# Altium footprint library LARS_409_CONNECTORS.PCBLIB: 109 footprints (part 3 of 7)
Each footprint in its own frame and in the unit in brackets; x right, y up, seen from the top. Pads: shape width x height; smd on the part's side, far side on the other; paste and mask are expansions set on the pad; w line width, h text height; cw(c..) or ccw(c..) is an arc to the next point about the centre after c.
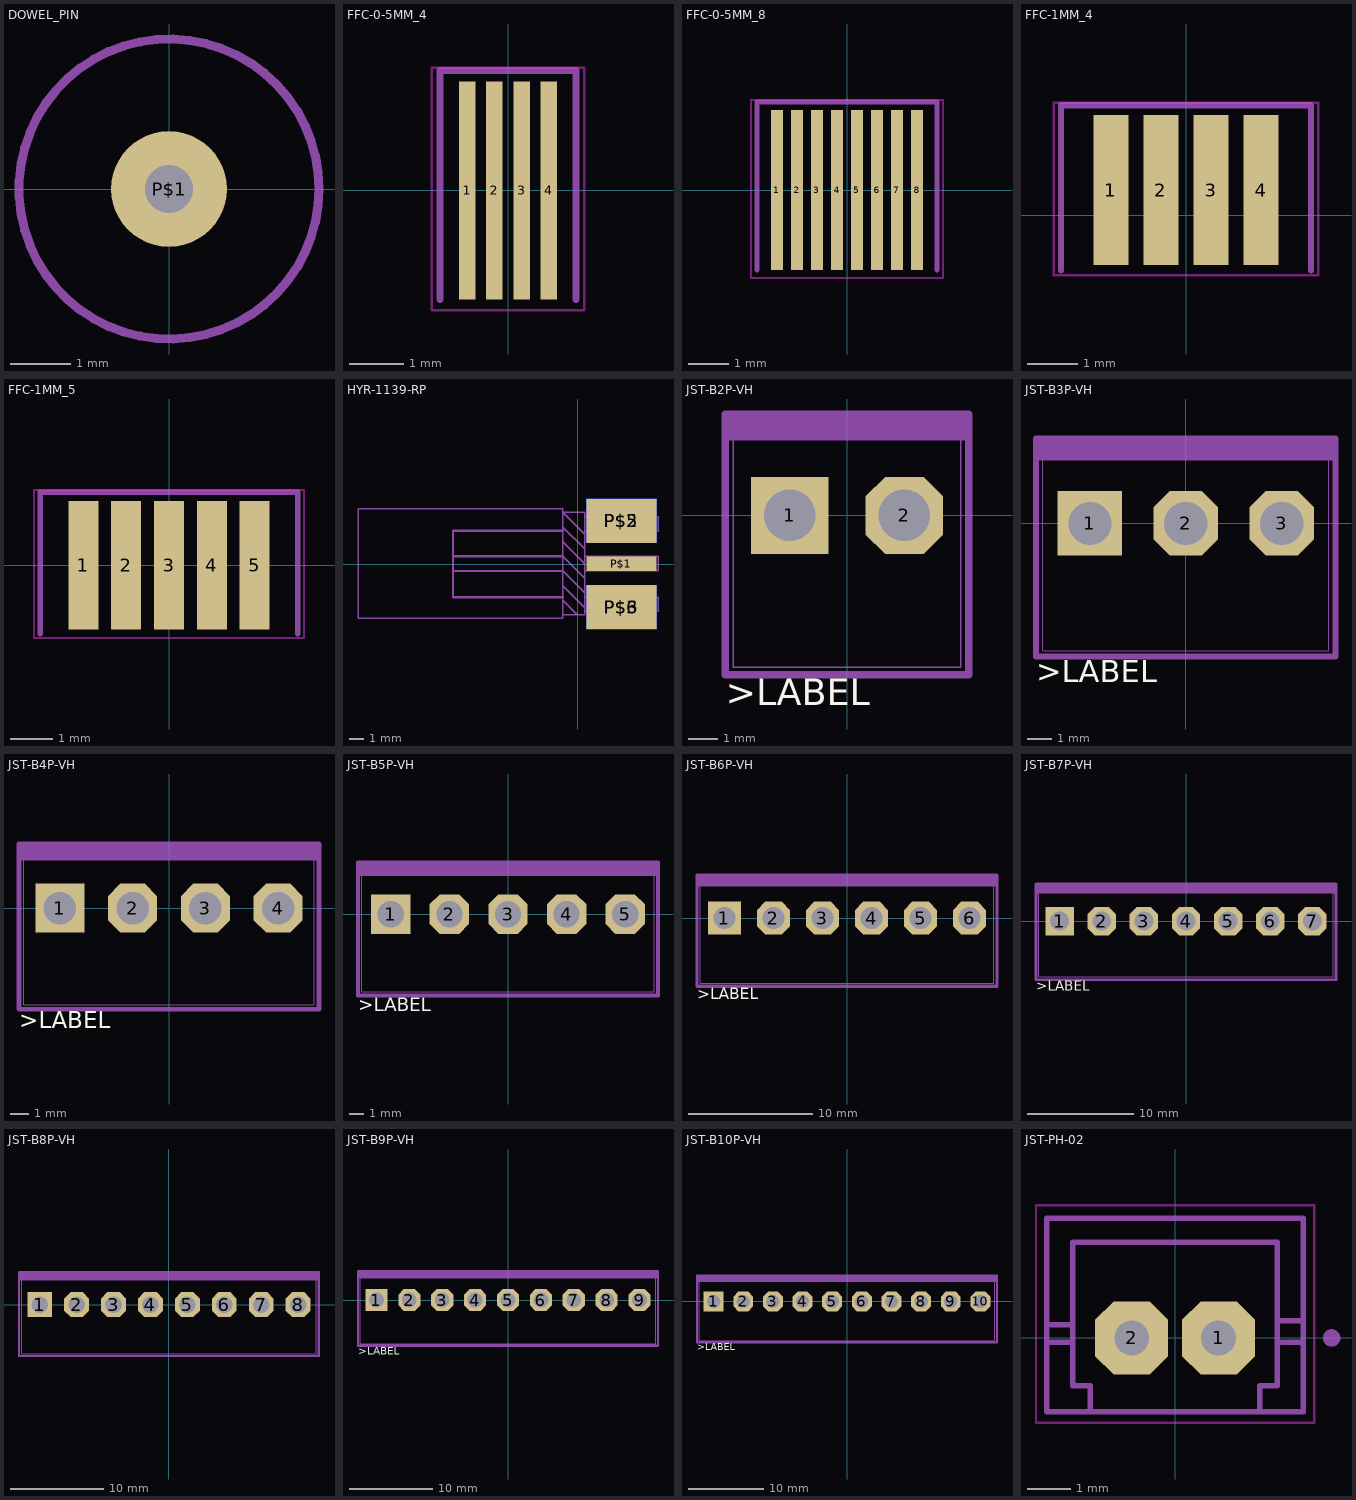
[diagram p2: the footprints below, top view; thin cyan lines are the x and y axes]

## DOWEL_PIN [mil]
pads (1):
  round 76 hole 31.5: P$1(0,0)
Top Solder:
  circle w98.43: c0,0 r49.21
tPlace:
  circle w5.91: c0,0 r98.43

## FFC-0-5MM_4 [mm]
pads (4):
  rect 0.3x4 smd: 1(-0.75,0) 2(-0.25,0) 3(0.25,0) 4(0.75,0)
Top keep-out:
  lines w0.05: -1.4,-2.2 1.4,-2.2 1.4,2.25 -1.4,2.25 -1.4,-2.2
tDocu:
  lines w0.127: -1.25,2.2 1.25,2.2
tPlace:
  lines w0.127: -1.25,-2 -1.25,2.2 ; 1.25,-2 1.25,2.2

## FFC-0-5MM_8 [mm]
pads (8):
  rect 0.3x4 smd: 1(-1.75,0) 2(-1.25,0) 3(-0.75,0) 4(-0.25,0) 5(0.25,0) 6(0.75,0) 7(1.25,0) 8(1.75,0)
Top keep-out:
  lines w0.05: -2.4,-2.2 2.4,-2.2 2.4,2.25 -2.4,2.25 -2.4,-2.2
tDocu:
  lines w0.127: -2.25,2.2 2.25,2.2
tPlace:
  lines w0.127: -2.25,-2 -2.25,2.2 ; 2.25,-2 2.25,2.2

## FFC-1MM_4 [mm]
pads (4):
  rect 0.7x3 smd: 1(-1.5,0.5) 2(-0.5,0.5) 3(0.5,0.5) 4(1.5,0.5)
Top keep-out:
  lines w0.05: -2.65,-1.2 2.65,-1.2 2.65,2.25 -2.65,2.25 -2.65,-1.2
tDocu:
  lines w0.127: -2.5,2.2 2.5,2.2
tPlace:
  lines w0.127: -2.5,-1.1 -2.5,2.2 ; 2.5,-1.1 2.5,2.2

## FFC-1MM_5 [mm]
pads (5):
  rect 0.7x3 smd: 1(-2,0) 2(-1,0) 3(0,0) 4(1,0) 5(2,0)
Top keep-out:
  lines w0.05: -3.15,-1.7 3.15,-1.7 3.15,1.75 -3.15,1.75 -3.15,-1.7
tDocu:
  lines w0.127: -3,1.7 3,1.7
tPlace:
  lines w0.127: -3,-1.6 -3,1.7 ; 3,-1.6 3,1.7

## HYR-1139-RP [mm]
pads (5):
  rect 4.8x1 smd: P$1(2.997,0.044)
  rect 4.8x3 smd: P$2(2.997,2.964) P$3(2.997,-2.926)
  rect 4.8x3 smd far side: P$5(2.997,2.964) P$6(2.997,-2.926)
tPlace:
  lines w0.102: 0.497,-3.456 0.497,-3.226 ; 0.497,3.544 0.497,3.264 ; 0.497,-3.226 0.497,-2.236 ; 0.497,-3.226 5.497,-3.226 5.497,-2.236 0.497,-2.236 ; 0.497,-2.236 0.497,-0.456 ; 0.497,-0.456 0.497,0.544 ; 0.497,-0.456 5.497,-0.456 5.497,0.544 0.497,0.544 ; 0.497,0.544 0.497,2.264 ; 0.497,2.264 0.497,3.264 ; 0.497,2.264 5.497,2.264 5.497,3.264 0.497,3.264
tGlue:
  lines w0.102: -1.003,-1.456 0.497,-2.956 ; -1.003,2.544 0.497,1.044 ; -1,-3.4 -1,-3.7 -15,-3.7 -15,3.8 -1,3.8 -1,3.5 ; 0.497,-3.456 -0.003,-3.456 ; 0.497,-1.956 -1.003,-0.456 ; 0.497,-0.956 -1.003,0.544 ; 0.497,0.044 -1.003,1.544 ; 0.497,2.044 -1.003,3.544 ; 0.497,3.544 -1.003,3.544 ; -1.003,-2.456 -1.003,-2.256 -1.003,-0.456 ; -1.003,-2.456 -1.003,-3.456 -0.003,-3.456 ; -1.003,-2.456 -0.003,-3.456 ; -1.003,-0.456 -1.003,0.544 ; -1.003,0.544 -1.003,1.544 ; -1.003,1.544 -1.003,2.294 -1.003,3.544
  lines w0.152: -1.003,-2.256 -8.503,-2.256 -8.503,-0.456 ; -1.003,-0.456 -8.503,-0.456 ; -1.003,0.544 -8.503,0.544 ; -1.003,2.294 -8.503,2.294 -8.503,0.544 ; -8.503,-0.456 -8.503,0.544

## JST-B2P-VH [mil]
pads (2):
  rect 105x105 / inner round 97.01 / far side rect 105x105 hole 70: 1(-77.95,0)
  oct 105x105 / inner round 97.01 / far side oct 105x105 hole 70: 2(77.95,0)
Top Overlay:
  text ">LABEL" at -165,-270 h62
tDocu:
  lines w2: -154.72,-206.69 154.72,-206.69 154.72,127.95 -154.72,127.95 -154.72,-206.69
tPlace:
  region: -165.35,102.36 -165.35,137.8 161.42,137.8 161.42,102.36
  lines w10: -165.35,-216.54 165.35,-216.54 165.35,137.8 -165.35,137.8 -165.35,-216.54

## JST-B3P-VH [mil]
pads (3):
  rect 105x105 / inner round 97.01 / far side rect 105x105 hole 70: 1(-155.91,0)
  oct 105x105 / inner round 97.01 / far side oct 105x105 hole 70: 2(0,0) 3(155.91,0)
Top Overlay:
  text ">LABEL" at -242.95,-270 h62
tDocu:
  lines w2: -232.68,-206.69 -232.68,127.95 232.68,127.95 232.68,-206.69 -232.68,-206.69
tPlace:
  region: -243.31,102.36 -243.31,137.8 244.09,137.8 244.09,102.36
  lines w10: -243.31,-216.54 -243.31,137.8 243.31,137.8 243.31,-216.54 -243.31,-216.54

## JST-B4P-VH [mil]
pads (4):
  rect 105x105 / inner round 97.01 / far side rect 105x105 hole 70: 1(-233.86,0)
  oct 105x105 / inner round 97.01 / far side oct 105x105 hole 70: 2(-77.95,0) 3(77.95,0) 4(233.86,0)
Top Overlay:
  text ">LABEL" at -320.91,-270 h62
tDocu:
  lines w2: -310.63,-206.69 -310.63,127.95 310.63,127.95 310.63,-206.69 -310.63,-206.69
tPlace:
  region: -321.26,102.36 -321.26,137.8 318.9,137.8 318.9,102.36
  lines w10: -321.26,-216.54 -321.26,137.8 321.26,137.8 321.26,-216.54 -321.26,-216.54

## JST-B5P-VH [mil]
pads (5):
  rect 105x105 / inner round 97.01 / far side rect 105x105 hole 70: 1(-311.81,0)
  oct 105x105 / inner round 97.01 / far side oct 105x105 hole 70: 2(-155.91,0) 3(0,0) 4(155.91,0) 5(311.81,0)
Top Overlay:
  text ">LABEL" at -398.86,-270 h62
tDocu:
  lines w2: -388.58,-206.69 -388.58,127.95 388.58,127.95 388.58,-206.69 -388.58,-206.69
tPlace:
  region: -399.21,102.36 -399.21,137.8 397.64,137.8 397.64,102.36
  lines w10: -399.21,-216.54 -399.21,137.8 399.21,137.8 399.21,-216.54 -399.21,-216.54

## JST-B6P-VH [mil]
pads (6):
  rect 105x105 / inner round 97.01 / far side rect 105x105 hole 70: 1(-389.76,0)
  oct 105x105 / inner round 97.01 / far side oct 105x105 hole 70: 2(-233.86,0) 3(-77.95,0) 4(77.95,0) 5(233.86,0) 6(389.76,0)
Top Overlay:
  text ">LABEL" at -476.81,-270 h62
tDocu:
  lines w2: -466.54,-206.69 -466.54,127.95 466.54,127.95 466.54,-206.69 -466.54,-206.69
tPlace:
  region: -477.17,102.36 -477.17,137.8 476.38,137.8 476.38,102.36
  lines w10: -477.17,-216.54 -477.17,137.8 477.17,137.8 477.17,-216.54 -477.17,-216.54

## JST-B7P-VH [mil]
pads (7):
  rect 105x105 / inner round 97.01 / far side rect 105x105 hole 70: 1(-467.72,0)
  oct 105x105 / inner round 97.01 / far side oct 105x105 hole 70: 2(-311.81,0) 3(-155.91,0) 4(0,0) 5(155.91,0) 6(311.81,0) 7(467.72,0)
Top Overlay:
  text ">LABEL" at -554.76,-270 h62
tDocu:
  lines w2: -544.49,-206.69 -544.49,127.95 544.49,127.95 544.49,-206.69 -544.49,-206.69
tPlace:
  region: -555.12,102.36 -555.12,137.8 555.12,137.8 555.12,102.36
  lines w10: -555.12,-216.54 -555.12,137.8 555.12,137.8 555.12,-216.54 -555.12,-216.54

## JST-B8P-VH [mil]
pads (8):
  rect 105x105 / inner round 97.01 / far side rect 105x105 hole 70: 1(-545.67,0)
  oct 105x105 / inner round 97.01 / far side oct 105x105 hole 70: 2(-389.76,0) 3(-233.86,0) 4(-77.95,0) 5(77.95,0) 6(233.86,0) 7(389.76,0) 8(545.67,0)
tDocu:
  lines w2: -622.44,-206.69 -622.44,127.95 622.44,127.95 622.44,-206.69 -622.44,-206.69
tPlace:
  region: -633.07,102.36 -633.07,137.8 633.86,137.8 633.86,102.36
  lines w10: -633.07,-216.54 -633.07,137.8 633.07,137.8 633.07,-216.54 -633.07,-216.54

## JST-B9P-VH [mil]
pads (9):
  rect 105x105 / inner round 97.01 / far side rect 105x105 hole 70: 1(-623.62,0)
  oct 105x105 / inner round 97.01 / far side oct 105x105 hole 70: 2(-467.72,0) 3(-311.81,0) 4(-155.91,0) 5(0,0) 6(155.91,0) 7(311.81,0) 8(467.72,0) 9(623.62,0)
Top Overlay:
  text ">LABEL" at -710.67,-270 h62
tDocu:
  lines w2: -700.39,-206.69 -700.39,127.95 700.39,127.95 700.39,-206.69 -700.39,-206.69
tPlace:
  region: -711.02,102.36 -711.02,137.8 708.66,137.8 708.66,102.36
  lines w10: -711.02,-216.54 -711.02,137.8 711.02,137.8 711.02,-216.54 -711.02,-216.54

## JST-B10P-VH [mil]
pads (10):
  rect 105x105 / inner round 97.01 / far side rect 105x105 hole 70: 1(-701.57,0)
  oct 105x105 / inner round 97.01 / far side oct 105x105 hole 70: 2(-545.67,0) 3(-389.76,0) 4(-233.86,0) 5(-77.95,0) 6(77.95,0) 7(233.86,0) 8(389.76,0) 9(545.67,0) 10(701.57,0)
Top Overlay:
  text ">LABEL" at -788.62,-270 h62
tDocu:
  lines w2: -778.35,-206.69 -778.35,127.95 778.35,127.95 778.35,-206.69 -778.35,-206.69
tPlace:
  region: -788.98,102.36 -788.98,137.8 787.4,137.8 787.4,102.36
  lines w10: -788.98,-216.54 -788.98,137.8 788.98,137.8 788.98,-216.54 -788.98,-216.54

## JST-PH-02 [mil]
pads (2):
  oct 66x66 / inner round 60.98 / far side oct 66x66 hole 31.5: 1(39.37,0) 2(-39.37,0)
Top keep-out:
  lines w1.97: -125.98,-76.77 -125.98,120.08 125.98,120.08 125.98,-76.77 -125.98,-76.77
tDocu:
  circle w7.87: c141.73,0 r3.94
  lines w5: -116.14,-66.93 -116.14,108.27 116.14,108.27 116.14,-66.93 -116.14,-66.93
tPlace:
  circle w7.87: c141.73,0 r3.94
  lines w5: -112.2,-3.94 -96.46,-3.94 ; -112.2,11.81 -96.46,11.81 ; -76.77,-66.93 -76.77,-43.31 -92.52,-43.31 -92.52,86.61 92.52,86.61 92.52,-43.31 76.77,-43.31 76.77,-66.93 ; 96.46,-3.94 112.2,-3.94 ; 96.46,15.75 112.2,15.75 ; -116.14,-66.93 116.14,-66.93 116.14,108.27 -116.14,108.27 -116.14,-66.93